# Altium integrated library Lattice FPGA EC.IntLib: 200 symbols (part 19 of 40)
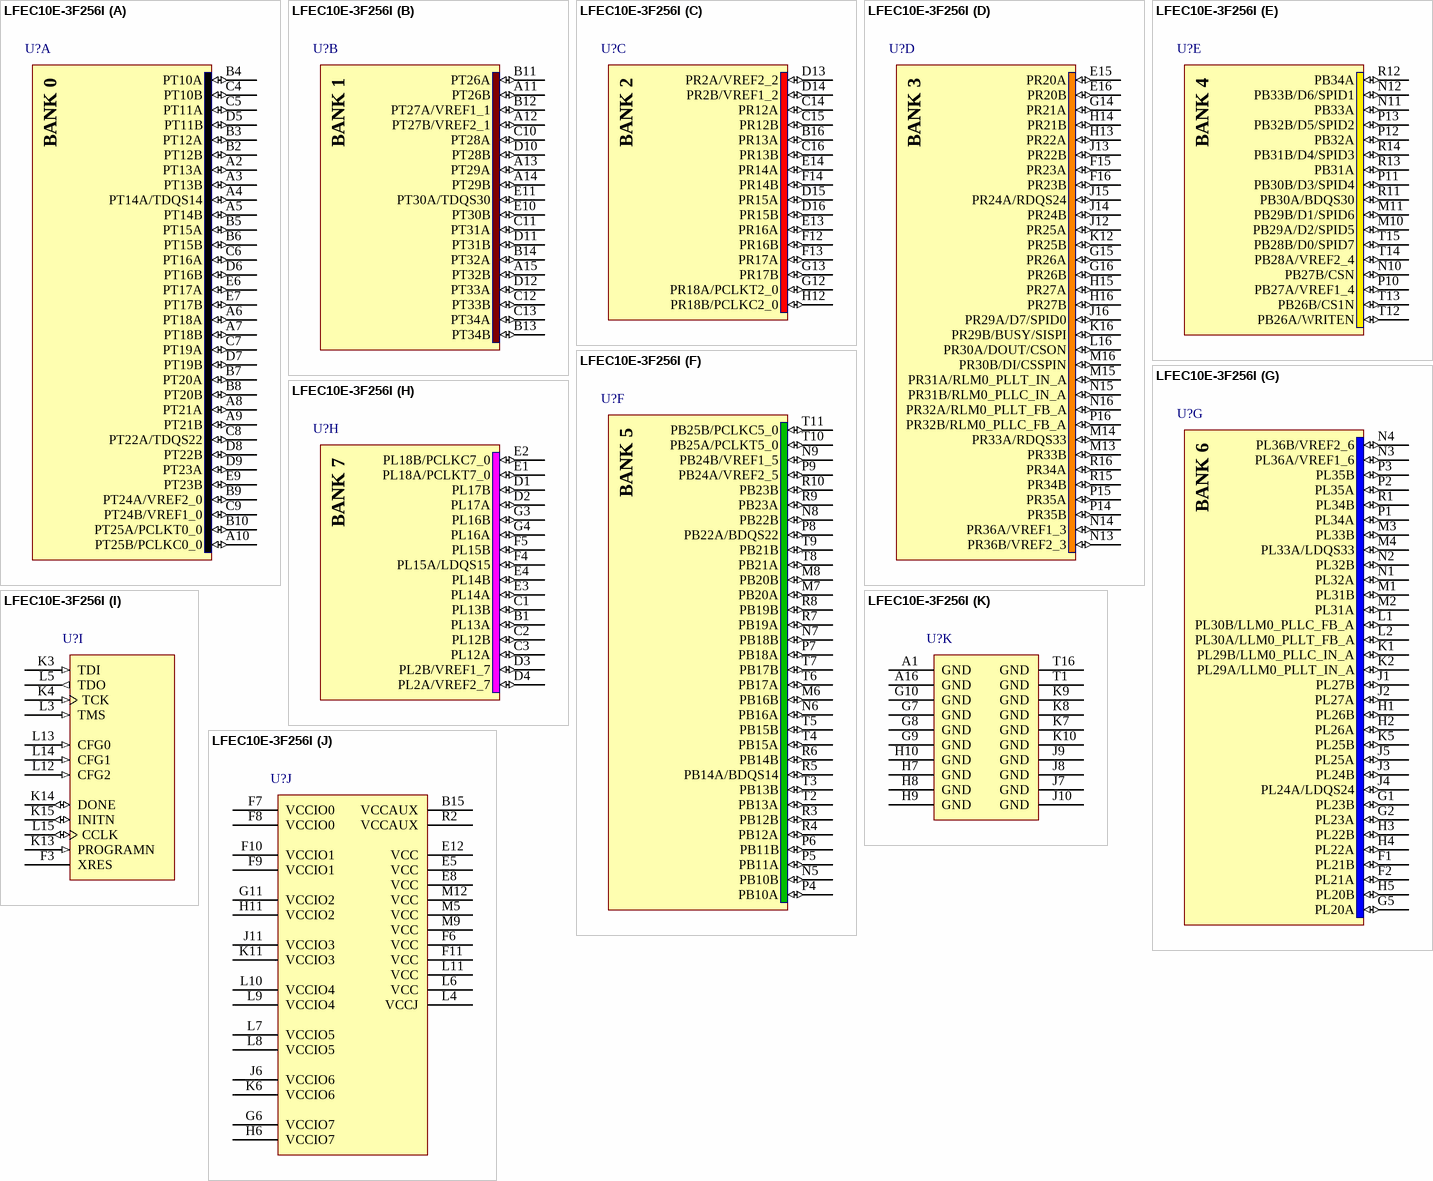
[diagram p288: symbol LFEC10E-3F256I]

## LFEC10E-3F256I
designator U?
EC 1.2V FPGA, 192 I/Os, 4 PLLs, 10.2K LUTs, 256-Pin fpBGA, Speed Grade 3, Industrial Temperature Grade; Published: 4-Mar-2005; LatestRevisionDate: 13-Apr-2006; LatestRevisionNote: IPC-7351 Footprint Added.; DatasheetVersion: ver2.2, Mar-2006; PackageVersion: pkg_33, Apr-2006; PackageReference: fpBGA256; Publisher: Altium Limited; PackageDescription: 256-Ball Fine Pitch Ball Grid Array (fpBGA256); Code_IPC: BGA100P16X16-256; ComponentLink1Description: Manufacturer Link; ComponentLink1URL: http://www.latticesemi.com/products/fpga/ecpec/index.cfm; ComponentLink2Description: Datasheet; ComponentLink2URL: http://www.latticesemi.com/lit/docs/datasheets/fpga/ecp_ec_datasheet.pdf; ComponentLink3Description: Packaging Specification; ComponentLink3URL: http://www.latticesemi.com/lit/docs/package/pkg.pdf; ComponentLink4Description: Lattice Login; ComponentLink4URL: http://www.latticesemi.com/account/login.cfm
footprint fpBGA256 (BGA, 256-Leads, Body 17x17mm, Pitch 1mm)
3D model EC10E-fpBGA256 (256-Ball Fine Pitch Ball Grid Array (fpBGA256))
part A pins: A2 PT13A (io), A3 PT13B (io), A4 PT14A/TDQS14 (io), A5 PT14B (io), A6 PT18A (io), A7 PT18B (io), A8 PT21A (io), A9 PT21B (io), A10 PT25B/PCLKC0_0 (io), B2 PT12B (io), B3 PT12A (io), B4 PT10A (io), B5 PT15A (io), B6 PT15B (io), B7 PT20A (io), B8 PT20B (io), B9 PT24A/VREF2_0 (io), B10 PT25A/PCLKT0_0 (io), C4 PT10B (io), C5 PT11A (io), C6 PT16A (io), C7 PT19A (io), C8 PT22A/TDQS22 (io), C9 PT24B/VREF1_0 (io), D5 PT11B (io), D6 PT16B (io), D7 PT19B (io), D8 PT22B (io), D9 PT23A (io), E6 PT17A (io), E7 PT17B (io), E9 PT23B (io)
part B pins: A11 PT26B (io), A12 PT27B/VREF2_1 (io), A13 PT29A (io), A14 PT29B (io), A15 PT32B (io), B11 PT26A (io), B12 PT27A/VREF1_1 (io), B13 PT34B (io), B14 PT32A (io), C10 PT28A (io), C11 PT31A (io), C12 PT33B (io), C13 PT34A (io), D10 PT28B (io), D11 PT31B (io), D12 PT33A (io), E10 PT30B (io), E11 PT30A/TDQS30 (io)
part C pins: B16 PR13A (io), C14 PR12A (io), C15 PR12B (io), C16 PR13B (io), D13 PR2A/VREF2_2 (io), D14 PR2B/VREF1_2 (io), D15 PR15A (io), D16 PR15B (io), E13 PR16A (io), E14 PR14A (io), F12 PR16B (io), F13 PR17A (io), F14 PR14B (io), G12 PR18A/PCLKT2_0 (io), G13 PR17B (io), H12 PR18B/PCLKC2_0 (io)
part D pins: E15 PR20A (io), E16 PR20B (io), F15 PR23A (io), F16 PR23B (io), G14 PR21A (io), G15 PR26A (io), G16 PR26B (io), H13 PR22A (io), H14 PR21B (io), H15 PR27A (io), H16 PR27B (io), J12 PR25A (io), J13 PR22B (io), J14 PR24B (io), J15 PR24A/RDQS24 (io), J16 PR29A/D7/SPID0 (io), K12 PR25B (io), K16 PR29B/BUSY/SISPI (io), L16 PR30A/DOUT/CSON (io), M13 PR33B (io), M14 PR33A/RDQS33 (io), M15 PR31A/RLM0_PLLT_IN_A (io), M16 PR30B/DI/CSSPIN (io), N13 PR36B/VREF2_3 (io), N14 PR36A/VREF1_3 (io), N15 PR31B/RLM0_PLLC_IN_A (io), N16 PR32A/RLM0_PLLT_FB_A (io), P14 PR35B (io), P15 PR35A (io), P16 PR32B/RLM0_PLLC_FB_A (io), R15 PR34B (io), R16 PR34A (io)
part E pins: M10 PB29A/D2/SPID5 (io), M11 PB29B/D1/SPID6 (io), N10 PB27B/CSN (io), N11 PB33A (io), N12 PB33B/D6/SPID1 (io), P10 PB27A/VREF1_4 (io), P11 PB30B/D3/SPID4 (io), P12 PB32A (io), P13 PB32B/D5/SPID2 (io), R11 PB30A/BDQS30 (io), R12 PB34A (io), R13 PB31A (io), R14 PB31B/D4/SPID3 (io), T12 PB26A/WRITEN (io), T13 PB26B/CS1N (io), T14 PB28A/VREF2_4 (io), T15 PB28B/D0/SPID7 (io)
part F pins: M6 PB16B (io), M7 PB20A (io), M8 PB20B (io), N5 PB10B (io), N6 PB16A (io), N7 PB18B (io), N8 PB22B (io), N9 PB24B/VREF1_5 (io), P4 PB10A (io), P5 PB11A (io), P6 PB11B (io), P7 PB18A (io), P8 PB22A/BDQS22 (io), P9 PB24A/VREF2_5 (io), R3 PB12B (io), R4 PB12A (io), R5 PB14A/BDQS14 (io), R6 PB14B (io), R7 PB19A (io), R8 PB19B (io), R9 PB23A (io), R10 PB23B (io), T2 PB13A (io), T3 PB13B (io), T4 PB15A (io), T5 PB15B (io), T6 PB17A (io), T7 PB17B (io), T8 PB21A (io), T9 PB21B (io), T10 PB25A/PCLKT5_0 (io), T11 PB25B/PCLKC5_0 (io)
part G pins: F1 PL21B (io), F2 PL21A (io), G1 PL23B (io), G2 PL23A (io), G5 PL20A (io), H1 PL26B (io), H2 PL26A (io), H3 PL22B (io), H4 PL22A (io), H5 PL20B (io), J1 PL27B (io), J2 PL27A (io), J3 PL24B (io), J4 PL24A/LDQS24 (io), J5 PL25A (io), K1 PL29B/LLM0_PLLC_IN_A (io), K2 PL29A/LLM0_PLLT_IN_A (io), K5 PL25B (io), L1 PL30B/LLM0_PLLC_FB_A (io), L2 PL30A/LLM0_PLLT_FB_A (io), M1 PL31B (io), M2 PL31A (io), M3 PL33B (io), M4 PL33A/LDQS33 (io), N1 PL32A (io), N2 PL32B (io), N3 PL36A/VREF1_6 (io), N4 PL36B/VREF2_6 (io), P1 PL34A (io), P2 PL35A (io), P3 PL35B (io), R1 PL34B (io)
part H pins: B1 PL13A (io), C1 PL13B (io), C2 PL12B (io), C3 PL12A (io), D1 PL17B (io), D2 PL17A (io), D3 PL2B/VREF1_7 (io), D4 PL2A/VREF2_7 (io), E1 PL18A/PCLKT7_0 (io), E2 PL18B/PCLKC7_0 (io), E3 PL14A (io), E4 PL14B (io), F4 PL15A/LDQS15 (io), F5 PL15B (io), G3 PL16B (io), G4 PL16A (io)
part I pins: F3 XRES, K3 TDI (in), K4 TCK (in), K13 PROGRAMN (in), K14 DONE (io), K15 INITN (io), L3 TMS (in), L5 TDO (out), L12 CFG2 (in), L13 CFG0 (in), L14 CFG1 (in), L15 CCLK (io)
part J pins: B15 VCCAUX (power), E5 VCC (power), E8 VCC (power), E12 VCC (power), F6 VCC (power), F7 VCCIO0 (power), F8 VCCIO0 (power), F9 VCCIO1 (power), F10 VCCIO1 (power), F11 VCC (power), G6 VCCIO7 (power), G11 VCCIO2 (power), H6 VCCIO7 (power), H11 VCCIO2 (power), J6 VCCIO6 (power), J11 VCCIO3 (power), K6 VCCIO6 (power), K11 VCCIO3 (power), L4 VCCJ (power), L6 VCC (power), L7 VCCIO5 (power), L8 VCCIO5 (power), L9 VCCIO4 (power), L10 VCCIO4 (power), L11 VCC (power), M5 VCC (power), M9 VCC (power), M12 VCC (power), R2 VCCAUX (power)
part K pins: A1 GND (power), A16 GND (power), G7 GND (power), G8 GND (power), G9 GND (power), G10 GND (power), H7 GND (power), H8 GND (power), H9 GND (power), H10 GND (power), J7 GND (power), J8 GND (power), J9 GND (power), J10 GND (power), K7 GND (power), K8 GND (power), K9 GND (power), K10 GND (power), T1 GND (power), T16 GND (power)
part A text: BANK 0
part B text: BANK 1
part C text: BANK 2
part D text: BANK 3
part E text: BANK 4
part F text: BANK 5
part G text: BANK 6
part H text: BANK 7

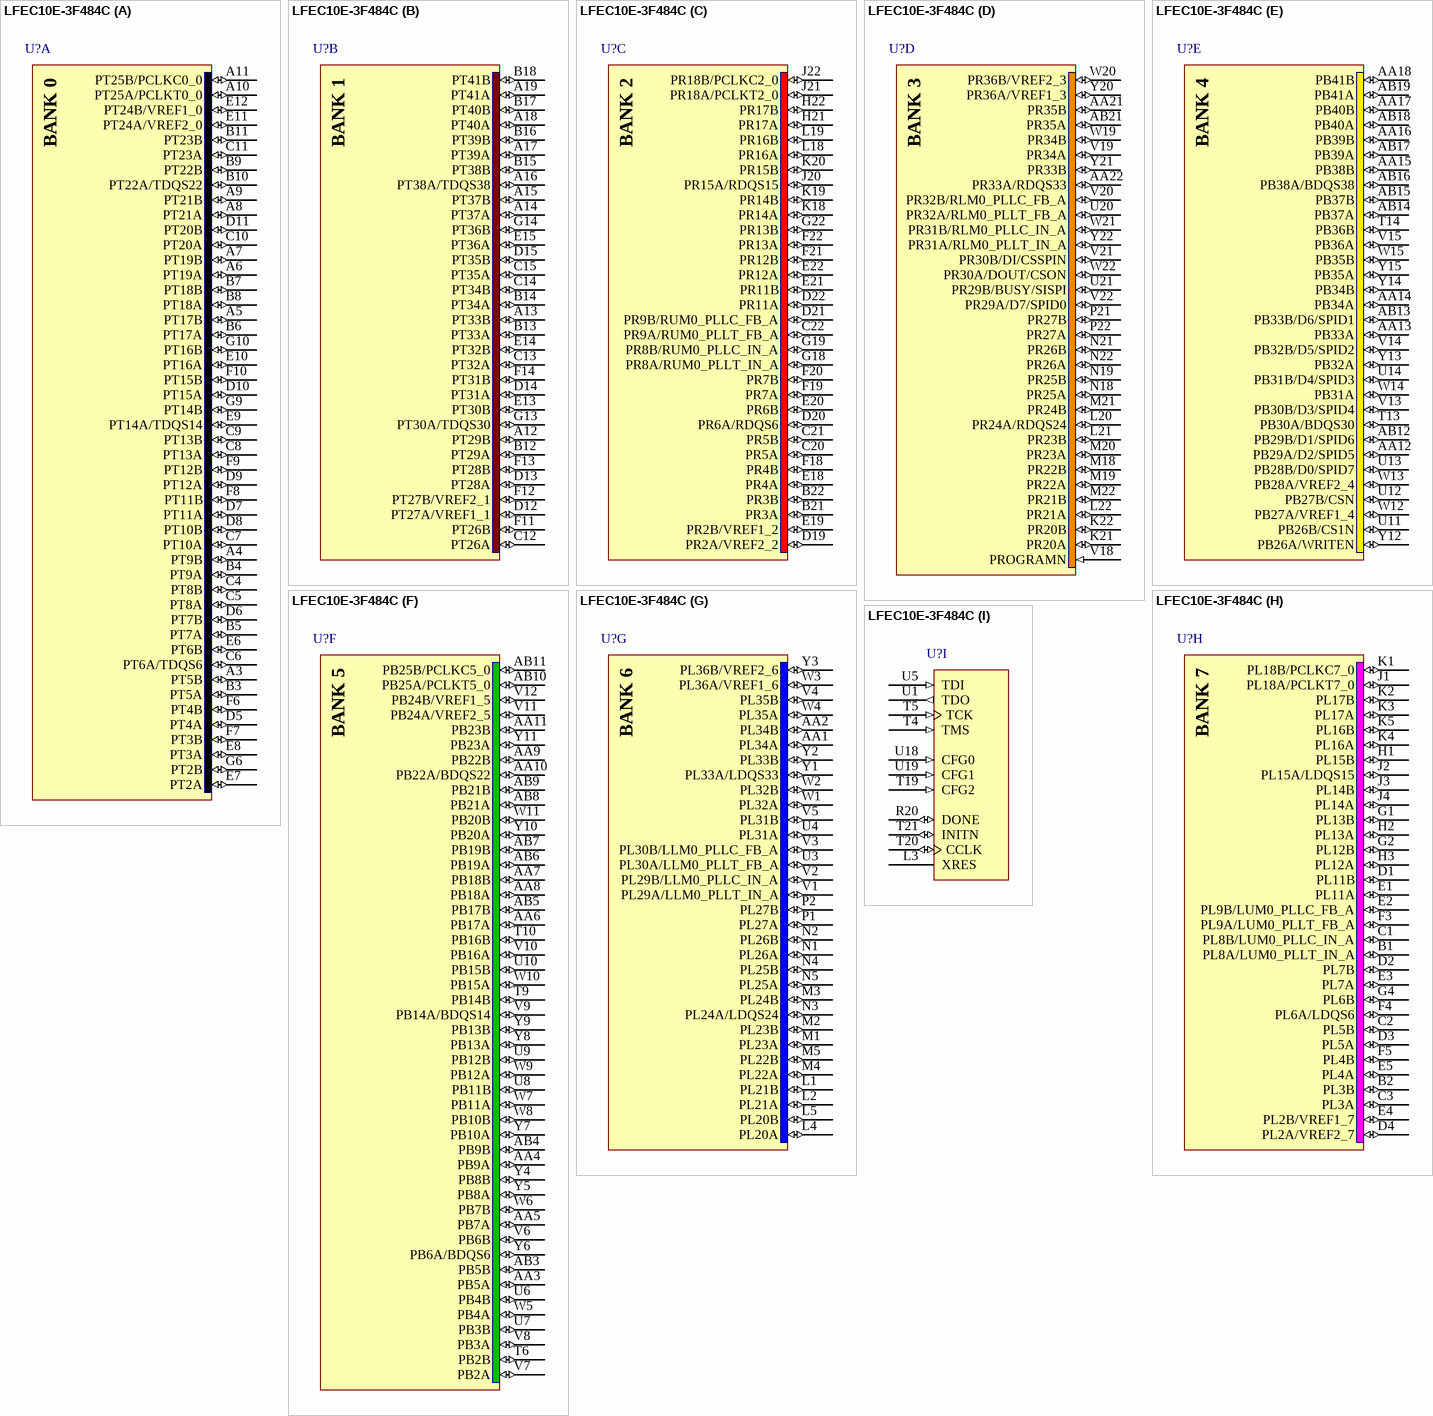
[diagram p74: symbol LFEC10E-3F484C]

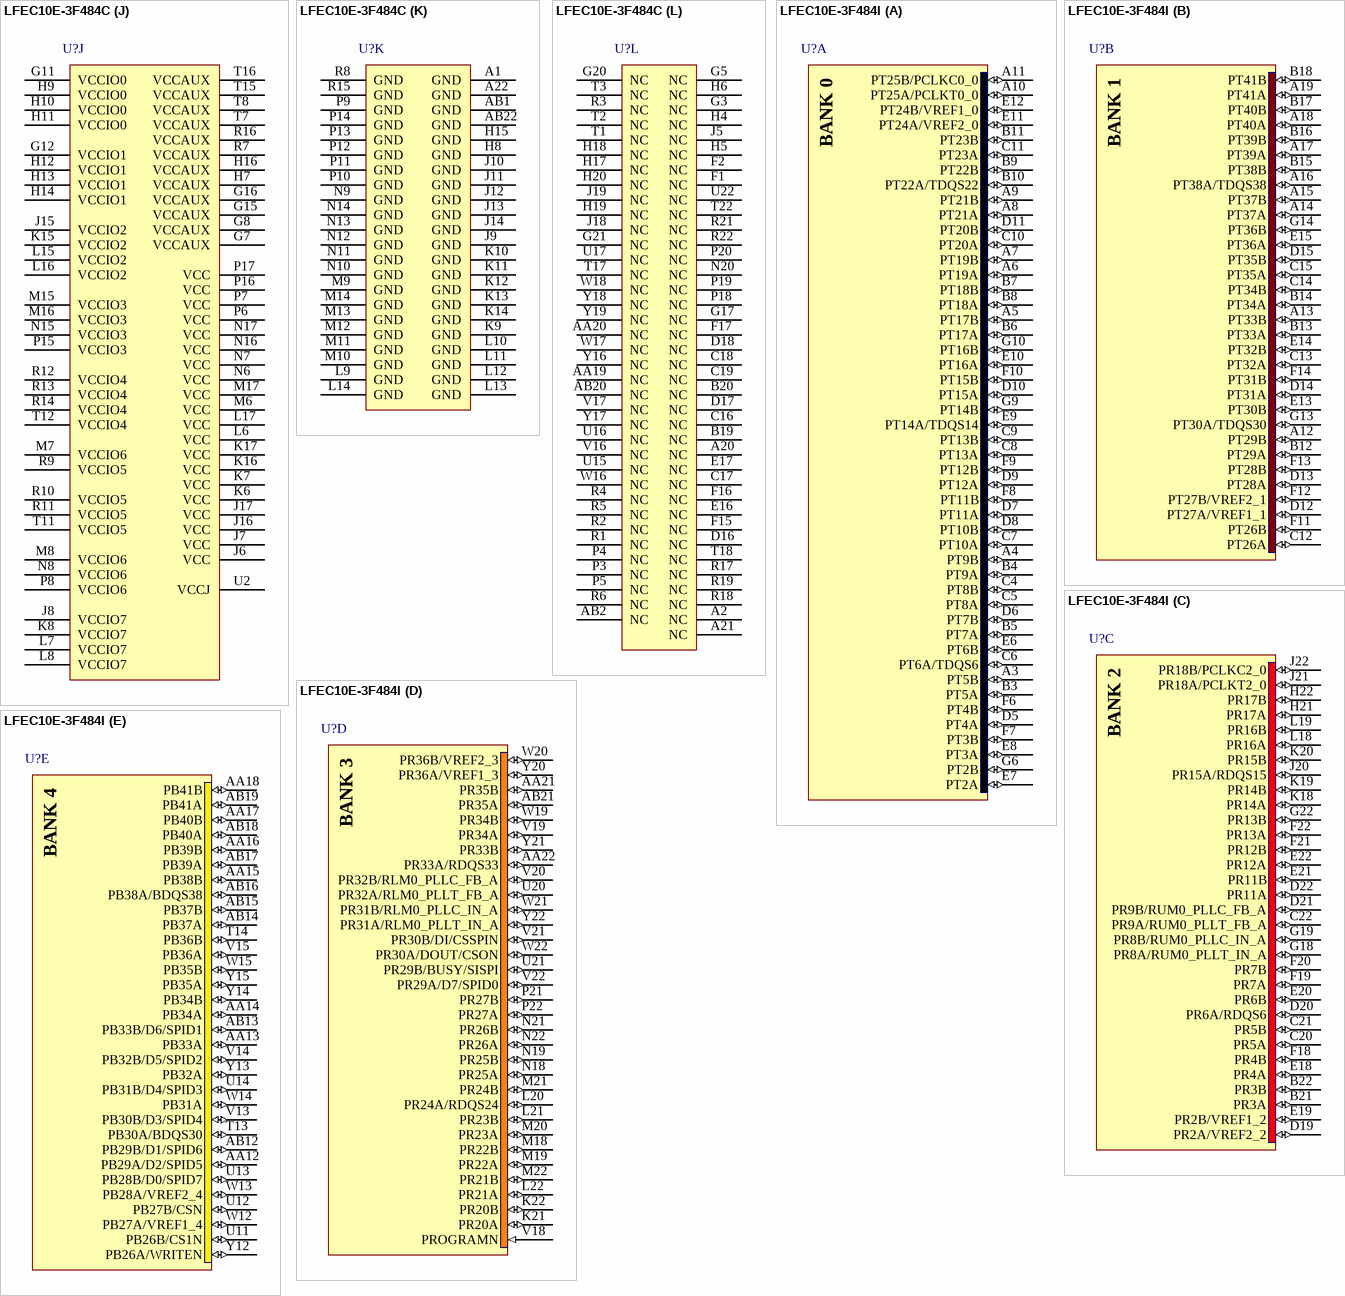
[diagram p75: symbols LFEC10E-3F484C to LFEC10E-3F484I]